# Altium schematic symbol library SCH - DRIVER - LED - TI LM3450_PW_16.SchLib: 1 symbol
Pins are listed as number, name and electrical type; pins without a type are passive.

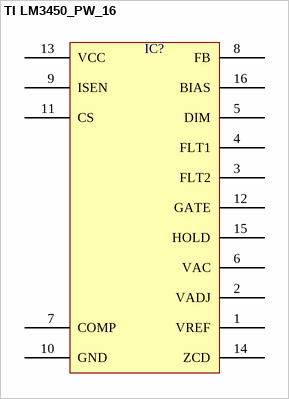
[diagram p0: symbol TI LM3450_PW_16]

## TI LM3450_PW_16
designator IC?  (value not drawn)
pins: 1 VREF, 2 VADJ, 3 FLT2, 4 FLT1, 5 DIM, 6 VAC, 7 COMP, 8 FB, 9 ISEN, 10 GND, 11 CS, 12 GATE, 13 VCC, 14 ZCD, 15 HOLD, 16 BIAS